# EAGLE library part TEXAS_INSTRUMENTS-MOSFET_DRIVER-SM72295_DW_28 (library Module_ICs)
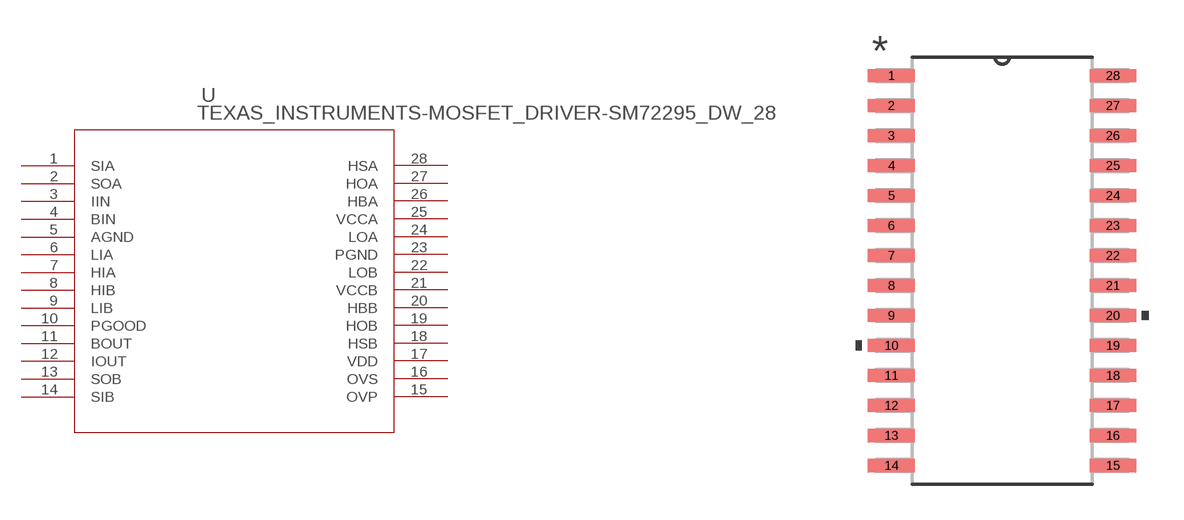
[diagram p14: symbol with the pads of TEXAS_INSTRUMENTS-MOSFET_DRIVER-SM72295_DW_28; footprint TEXAS_INSTRUMENTS-MOSFET_DRIVER-SM72295_DW_28]

Designator prefix U

## TEXAS_INSTRUMENTS-MOSFET_DRIVER-SM72295_DW_28 (BASEPN: SM72295; DATASHEETURL: httpwww.ti.comlitdssymlinksm72295.pdf; MANUFACTURER: Texas Instruments; MANUFACTURER_PART_NUMBER: sm72295_dw_28; NSC_PACKAGEREFERENCE: M28B; VENDOR: Texas Instruments)  [TEXAS_INSTRUMENTS-MOSFET_DRIVER-SM72295_DW_28]
1  SIA  in
2  SOA  in
3  IIN  out
4  BIN  in
5  AGND  pwr
6  LIA  in
7  HIA  in
8  HIB  in
9  LIB  in
10  PGOOD  out
11  BOUT  out
12  IOUT  out
13  SOB  in
14  SIB  in
15  OVP  out
16  OVS  in
17  VDD  pwr
18  HSB  pas
19  HOB  out
20  HBB  pas
21  VCCB  pwr
22  LOB  out
23  PGND  pwr
24  LOA  out
25  VCCA  pwr
26  HBA  pas
27  HOA  out
28  HSA  pas

## Footprint TEXAS_INSTRUMENTS-MOSFET_DRIVER-SM72295_DW_28 (pad centres in mm)
smd 1.981 x 0.559: 1 -4.686,8.255; 2 -4.686,6.985; 3 -4.686,5.715; 4 -4.686,4.445; 5 -4.686,3.175; 6 -4.686,1.905; 7 -4.686,0.635; 8 -4.686,-0.635; 9 -4.686,-1.905; 10 -4.686,-3.175; 11 -4.686,-4.445; 12 -4.686,-5.715; 13 -4.686,-6.985; 14 -4.686,-8.255; 15 4.686,-8.255; 16 4.686,-6.985; 17 4.686,-5.715; 18 4.686,-4.445; 19 4.686,-3.175; 20 4.686,-1.905; 21 4.686,-0.635; 22 4.686,0.635; 23 4.686,1.905; 24 4.686,3.175; 25 4.686,4.445; 26 4.686,5.715; 27 4.686,6.985; 28 4.686,8.255